# EAGLE library part 4455-C09_S (library con-molex-kk)
RECEPTACAL
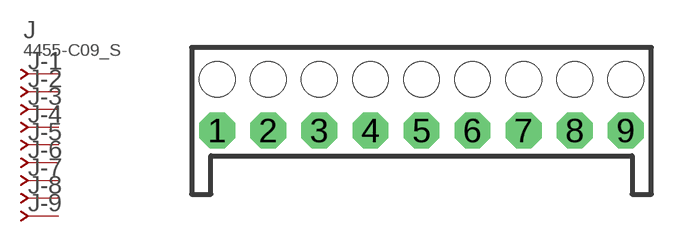
[diagram p101: symbol with the pads of 4455-C09; footprint 4455-C09]

Designator prefix J; gates -1=J-NV -2=J-N -3=J-N -4=J-N -5=J-N -6=J-N -7=J-N -8=J-N -9=J-N

## 4455-C09_S  [4455-C09]
1  -1:J  pas
2  -2:J  pas
3  -3:J  pas
4  -4:J  pas
5  -5:J  pas
6  -6:J  pas
7  -7:J  pas
8  -8:J  pas
9  -9:J  pas

## Footprint 4455-C09 (pad centres in mm)
RECEPTACAL Vertical, Top Entry, 0.1" pitch
drill 1.016 pad 1.778 octagon: 1 -10.16,0; 2 -7.62,0; 3 -5.08,0; 4 -2.54,0; 5 0,0; 6 2.54,0; 7 5.08,0; 8 7.62,0; 9 10.16,0
hole 1.778 at -10.16,2.54
hole 1.778 at -7.62,2.54
hole 1.778 at -5.08,2.54
hole 1.778 at -2.54,2.54
hole 1.778 at 0,2.54
hole 1.778 at 2.54,2.54
hole 1.778 at 5.08,2.54
hole 1.778 at 7.62,2.54
hole 1.778 at 10.16,2.54